# Altium schematic symbol library TDKxx-yySzz.SchLib: 5 symbols
Pins are listed as number, name and electrical type; pins without a type are passive.

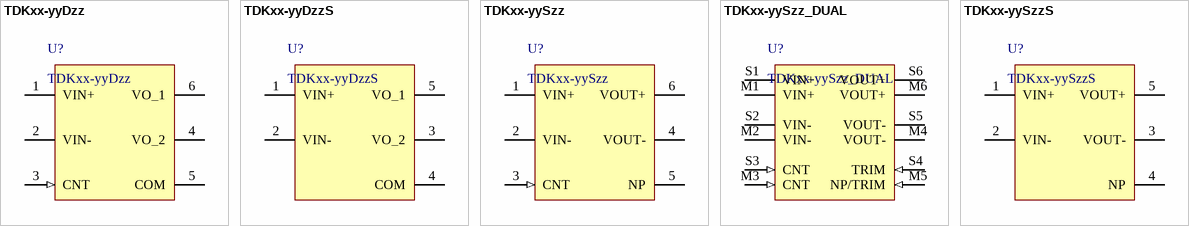
[diagram p0: symbols TDKxx-yyDzz to TDKxx-yySzzS]

## TDKxx-yyDzz
designator U?
Isolated Dual Output DC/DC Converter, 15/20 W, 1x6-Pin DIP
pins: 1 VIN+ (power), 2 VIN- (power), 3 CNT (in), 4 VO_2 (power), 5 COM (power), 6 VO_1 (power)

## TDKxx-yyDzzS
designator U?
Isolated Dual Output DC/DC Converter, 15/20 W, 1x6-Pin DIP
pins: 1 VIN+ (power), 2 VIN- (power), 3 VO_2 (power), 4 COM (power), 5 VO_1 (power)

## TDKxx-yySzz
designator U?
Isolated Single Output DC/DC Converter, 15/20 W, 1x6-Pin DIP
pins: 1 VIN+ (power), 2 VIN- (power), 3 CNT (in), 4 VOUT- (power), 5 NP, 6 VOUT+ (power)

## TDKxx-yySzz_DUAL
designator U?
Isolated Single Output DC/DC Converter, 30 W, 2x6-Pin DIP (*M*iddle and *S*ide pin-out in one footprint/package, hopefully)
pins: M1 VIN+ (power), M2 VIN- (power), M3 CNT (in), M4 VOUT- (power), M5 NP/TRIM (in), M6 VOUT+ (power), S1 VIN+ (power), S2 VIN- (power), S3 CNT (in), S4 TRIM (in), S5 VOUT- (power), S6 VOUT+ (power)

## TDKxx-yySzzS
designator U?
Isolated Single Output DC/DC Converter, 15/20 W, 1x6-Pin DIP
pins: 1 VIN+ (power), 2 VIN- (power), 3 VOUT- (power), 4 NP, 5 VOUT+ (power)